# EAGLE library part USB-A-D-X-X-TH (library USB-A-D-X-X-TH)
Check availability <https://pricing.snapeda.com/parts/USB-A-D-S-B-TH/Samtec/view-part?ref=eda>
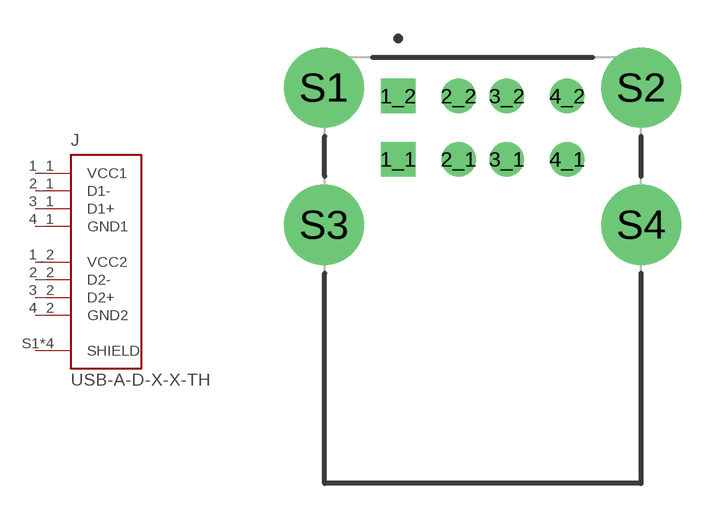
[diagram p0: symbol with the pads of SAMTEC_USB-A-D-X-X-TH; footprint SAMTEC_USB-A-D-X-X-TH]

Designator prefix J

## USB-A-D-X-X-TH (Availability: In Stock; Check_prices: https://www.snapeda.com/parts/USB-A-D-S-B-TH/Samtec+Inc./view-part/?ref=eda; Description: USB-A (USB TYPE-A) USB 2.0 Receptacle Connector 8 Position Through Hole, Right Angle; MF: Samtec; MP: USB-A-D-S-B-TH; Package: None; Price: None; SnapEDA_Link: https://www.snapeda.com/parts/USB-A-D-S-B-TH/Samtec+Inc./view-part/?ref=snap)  [SAMTEC_USB-A-D-X-X-TH]
1_1  VCC1  pwr
1_2  VCC2  pwr
2_1  D1-
2_2  D2-
3_1  D1+
3_2  D2+
4_1  GND1  pwr
4_2  GND2  pwr
S1  SHIELD  pas
S2  SHIELD  pas
S3  SHIELD  pas
S4  SHIELD  pas

## Footprint SAMTEC_USB-A-D-X-X-TH (pad centres in mm)
drill 0.92 square: 1_1 -3.5,0; 1_2 -3.5,2.62
drill 0.92: 2_1 -1,0; 2_2 -1,2.62; 3_1 1,0; 3_2 1,2.62; 4_1 3.5,0; 4_2 3.5,2.62
drill 2.3: S1 -6.57,2.97; S2 6.57,2.97; S3 -6.57,-2.71; S4 6.57,-2.71